# Altium footprint library LSM6DSMTR.PcbLib: 3 footprints
Each footprint in its own frame and in the unit in brackets; x right, y up, seen from the top. Pads: shape width x height; smd on the part's side, far side on the other; paste and mask are expansions set on the pad; w line width, h text height; cw(c..) or ccw(c..) is an arc to the next point about the centre after c.
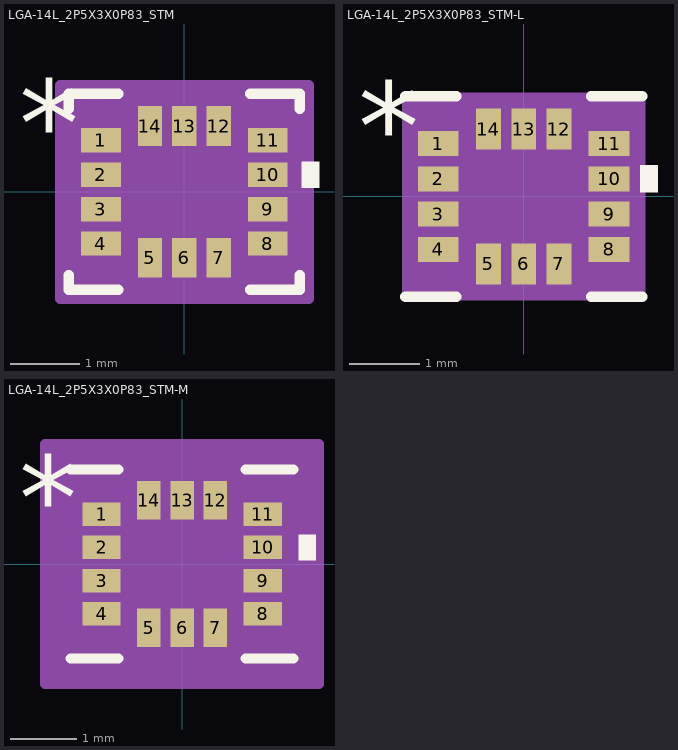
[diagram p0: the footprints below, top view; thin cyan lines are the x and y axes]

## LGA-14L_2P5X3X0P83_STM [mm]
pads (14):
  rect 0.577x0.352 smd paste+0 mask+0.102: 1(-1.21,0.75) 2(-1.21,0.25) 3(-1.21,-0.25) 4(-1.21,-0.75) 8(1.21,-0.75) 9(1.21,-0.25) 10(1.21,0.25) 11(1.21,0.75)
  rect 0.352x0.577 smd paste+0 mask+0.102: 5(-0.5,-0.956) 6(0,-0.956) 7(0.5,-0.956) 12(0.5,0.956) 13(0,0.956) 14(-0.5,0.956)
Top Overlay:
  region: 1.702,0.44 1.956,0.44 1.956,0.059 1.702,0.059
  lines w0.152: -1.676,-1.207 -1.676,-1.422 -0.957,-1.422 ; -1.676,1.207 -1.676,1.422 -0.957,1.422 ; 0.957,-1.422 1.676,-1.422 1.676,-1.207 ; 0.957,1.422 1.676,1.422 1.676,1.207
  text "*" at -2.4,0.365 h1.27
  text ".Designator" at -3.492,-0.635 h1.27
Mechanical 13:
  lines w0.025: -1.549,0.025 -0.279,1.295 ; -1.549,-1.295 1.549,-1.295 ; -1.549,-1.295 -1.549,1.295 ; -1.549,-1.295 -1.549,-1.295 ; -1.549,1.295 1.549,1.295 ; -1.549,1.295 -1.549,1.295 ; 1.549,-1.295 1.549,-1.295 ; 1.549,-1.295 1.549,1.295 ; 1.549,1.295 1.549,1.295 ; -1.549,-0.875 -1.549,-0.625 -1.448,-0.625 -1.448,-0.875 -1.549,-0.875 ; -1.549,-0.375 -1.549,-0.125 -1.448,-0.125 -1.448,-0.375 -1.549,-0.375 ; -1.549,0.125 -1.549,0.375 -1.448,0.375 -1.448,0.125 -1.549,0.125 ; -1.549,0.625 -1.549,0.875 -1.448,0.875 -1.448,0.625 -1.549,0.625 ; -0.625,-1.295 -0.375,-1.295 -0.375,-1.194 -0.625,-1.194 -0.625,-1.295 ; -0.625,1.194 -0.375,1.194 -0.375,1.295 -0.625,1.295 -0.625,1.194 ; -0.125,-1.295 0.125,-1.295 0.125,-1.194 -0.125,-1.194 -0.125,-1.295 ; -0.125,1.194 0.125,1.194 0.125,1.295 -0.125,1.295 -0.125,1.194 ; 0.375,-1.295 0.625,-1.295 0.625,-1.194 0.375,-1.194 0.375,-1.295 ; 0.375,1.194 0.625,1.194 0.625,1.295 0.375,1.295 0.375,1.194 ; 1.448,-0.875 1.549,-0.875 1.549,-0.625 1.448,-0.625 1.448,-0.875 ; 1.448,-0.375 1.549,-0.375 1.549,-0.125 1.448,-0.125 1.448,-0.375 ; 1.448,0.125 1.549,0.125 1.549,0.375 1.448,0.375 1.448,0.125 ; 1.448,0.625 1.549,0.625 1.549,0.875 1.448,0.875 1.448,0.625
  text ".Designator" at -3.492,-0.635 h1.27
  text "*" at -1.29,0.365 h1.27
Mechanical 15:
  region: -0.879,-1.549 -1.803,-1.549 -1.803,-1.129 -1.803,1.129 -1.803,1.549 -0.879,1.549 0.879,1.549 1.803,1.549 1.803,1.129 1.803,-1.129 1.803,-1.549 0.879,-1.549
  lines w0.152: -1.803,-1.129 -1.803,-1.549 -0.879,-1.549 ; -1.803,-1.129 -1.803,-1.129 ; -1.803,-1.129 -1.803,1.129 ; -1.803,1.129 -1.803,1.129 ; -1.803,1.129 -1.803,1.549 -0.879,1.549 ; -0.879,-1.549 0.879,-1.549 ; -0.879,-1.549 -0.879,-1.549 ; -0.879,1.549 -0.879,1.549 ; -0.879,1.549 0.879,1.549 ; 0.879,-1.549 1.803,-1.549 1.803,-1.129 ; 0.879,-1.549 0.879,-1.549 ; 0.879,1.549 0.879,1.549 ; 0.879,1.549 1.803,1.549 1.803,1.129 ; 1.803,-1.129 1.803,1.129 ; 1.803,-1.129 1.803,-1.129 ; 1.803,1.129 1.803,1.129
3D body "LGA-14L_2P5X3X0P83_STM.step": height 0.87, standoff 0, extent -1.549,-1.295 1.549,1.295

## LGA-14L_2P5X3X0P83_STM-L [mm]
pads (14):
  rect 0.577x0.352 smd paste+0 mask+0.102: 1(-1.21,0.75) 2(-1.21,0.25) 3(-1.21,-0.25) 4(-1.21,-0.75) 8(1.21,-0.75) 9(1.21,-0.25) 10(1.21,0.25) 11(1.21,0.75)
  rect 0.352x0.577 smd paste+0 mask+0.102: 5(-0.5,-0.956) 6(0,-0.956) 7(0.5,-0.956) 12(0.5,0.956) 13(0,0.956) 14(-0.5,0.956)
Top Overlay:
  region: 1.651,0.44 1.905,0.44 1.905,0.059 1.651,0.059
  lines w0.152: -1.676,-1.422 -0.957,-1.422 ; -1.676,1.422 -0.957,1.422 ; 0.957,-1.422 1.676,-1.422 ; 0.957,1.422 1.676,1.422
  text "*" at -2.349,0.365 h1.27
  text ".Designator" at -3.492,-0.635 h1.27
Mechanical 13:
  lines w0.025: -1.549,0.025 -0.279,1.295 ; -1.549,-1.295 1.549,-1.295 ; -1.549,-1.295 -1.549,1.295 ; -1.549,-1.295 -1.549,-1.295 ; -1.549,1.295 1.549,1.295 ; -1.549,1.295 -1.549,1.295 ; 1.549,-1.295 1.549,-1.295 ; 1.549,-1.295 1.549,1.295 ; 1.549,1.295 1.549,1.295 ; -1.549,-0.875 -1.549,-0.625 -1.448,-0.625 -1.448,-0.875 -1.549,-0.875 ; -1.549,-0.375 -1.549,-0.125 -1.448,-0.125 -1.448,-0.375 -1.549,-0.375 ; -1.549,0.125 -1.549,0.375 -1.448,0.375 -1.448,0.125 -1.549,0.125 ; -1.549,0.625 -1.549,0.875 -1.448,0.875 -1.448,0.625 -1.549,0.625 ; -0.625,-1.295 -0.375,-1.295 -0.375,-1.194 -0.625,-1.194 -0.625,-1.295 ; -0.625,1.194 -0.375,1.194 -0.375,1.295 -0.625,1.295 -0.625,1.194 ; -0.125,-1.295 0.125,-1.295 0.125,-1.194 -0.125,-1.194 -0.125,-1.295 ; -0.125,1.194 0.125,1.194 0.125,1.295 -0.125,1.295 -0.125,1.194 ; 0.375,-1.295 0.625,-1.295 0.625,-1.194 0.375,-1.194 0.375,-1.295 ; 0.375,1.194 0.625,1.194 0.625,1.295 0.375,1.295 0.375,1.194 ; 1.448,-0.875 1.549,-0.875 1.549,-0.625 1.448,-0.625 1.448,-0.875 ; 1.448,-0.375 1.549,-0.375 1.549,-0.125 1.448,-0.125 1.448,-0.375 ; 1.448,0.125 1.549,0.125 1.549,0.375 1.448,0.375 1.448,0.125 ; 1.448,0.625 1.549,0.625 1.549,0.875 1.448,0.875 1.448,0.625
  text ".Designator" at -3.492,-0.635 h1.27
  text "*" at -1.341,0.365 h1.27
Mechanical 15:
  region: -0.701,-1.397 -1.651,-1.397 -1.651,-0.951 -1.651,0.951 -1.651,1.397 -0.701,1.397 0.701,1.397 1.651,1.397 1.651,0.951 1.651,-0.951 1.651,-1.397 0.701,-1.397
  lines w0.152: -1.651,-0.951 -1.651,-1.397 -0.701,-1.397 ; -1.651,-0.951 -1.651,-0.951 ; -1.651,-0.951 -1.651,0.951 ; -1.651,0.951 -1.651,0.951 ; -1.651,0.951 -1.651,1.397 -0.701,1.397 ; -0.701,-1.397 0.701,-1.397 ; -0.701,-1.397 -0.701,-1.397 ; -0.701,1.397 -0.701,1.397 ; -0.701,1.397 0.701,1.397 ; 0.701,-1.397 1.651,-1.397 1.651,-0.951 ; 0.701,-1.397 0.701,-1.397 ; 0.701,1.397 0.701,1.397 ; 0.701,1.397 1.651,1.397 1.651,0.951 ; 1.651,-0.951 1.651,0.951 ; 1.651,-0.951 1.651,-0.951 ; 1.651,0.951 1.651,0.951
3D body "LGA-14L_2P5X3X0P83_STM.step": height 0.87, standoff 0, extent -1.549,-1.295 1.549,1.295

## LGA-14L_2P5X3X0P83_STM-M [mm]
pads (14):
  rect 0.577x0.352 smd paste+0 mask+0.102: 1(-1.21,0.75) 2(-1.21,0.25) 3(-1.21,-0.25) 4(-1.21,-0.75) 8(1.21,-0.75) 9(1.21,-0.25) 10(1.21,0.25) 11(1.21,0.75)
  rect 0.352x0.577 smd paste+0 mask+0.102: 5(-0.5,-0.956) 6(0,-0.956) 7(0.5,-0.956) 12(0.5,0.956) 13(0,0.956) 14(-0.5,0.956)
Top Overlay:
  region: 1.753,0.44 2.007,0.44 2.007,0.059 1.753,0.059
  lines w0.152: -1.676,-1.422 -0.957,-1.422 ; -1.676,1.422 -0.957,1.422 ; 0.957,-1.422 1.676,-1.422 ; 0.957,1.422 1.676,1.422
  text "*" at -2.451,0.365 h1.27
  text ".Designator" at -3.492,-0.635 h1.27
Mechanical 13:
  lines w0.025: -1.549,0.025 -0.279,1.295 ; -1.549,-1.295 1.549,-1.295 ; -1.549,-1.295 -1.549,1.295 ; -1.549,-1.295 -1.549,-1.295 ; -1.549,1.295 1.549,1.295 ; -1.549,1.295 -1.549,1.295 ; 1.549,-1.295 1.549,-1.295 ; 1.549,-1.295 1.549,1.295 ; 1.549,1.295 1.549,1.295 ; -1.549,-0.875 -1.549,-0.625 -1.448,-0.625 -1.448,-0.875 -1.549,-0.875 ; -1.549,-0.375 -1.549,-0.125 -1.448,-0.125 -1.448,-0.375 -1.549,-0.375 ; -1.549,0.125 -1.549,0.375 -1.448,0.375 -1.448,0.125 -1.549,0.125 ; -1.549,0.625 -1.549,0.875 -1.448,0.875 -1.448,0.625 -1.549,0.625 ; -0.625,-1.295 -0.375,-1.295 -0.375,-1.194 -0.625,-1.194 -0.625,-1.295 ; -0.625,1.194 -0.375,1.194 -0.375,1.295 -0.625,1.295 -0.625,1.194 ; -0.125,-1.295 0.125,-1.295 0.125,-1.194 -0.125,-1.194 -0.125,-1.295 ; -0.125,1.194 0.125,1.194 0.125,1.295 -0.125,1.295 -0.125,1.194 ; 0.375,-1.295 0.625,-1.295 0.625,-1.194 0.375,-1.194 0.375,-1.295 ; 0.375,1.194 0.625,1.194 0.625,1.295 0.375,1.295 0.375,1.194 ; 1.448,-0.875 1.549,-0.875 1.549,-0.625 1.448,-0.625 1.448,-0.875 ; 1.448,-0.375 1.549,-0.375 1.549,-0.125 1.448,-0.125 1.448,-0.375 ; 1.448,0.125 1.549,0.125 1.549,0.375 1.448,0.375 1.448,0.125 ; 1.448,0.625 1.549,0.625 1.549,0.875 1.448,0.875 1.448,0.625
  text ".Designator" at -3.492,-0.635 h1.27
  text "*" at -1.239,0.365 h1.27
Mechanical 15:
  region: -1.158,-1.803 -2.057,-1.803 -2.057,-1.408 -2.057,1.408 -2.057,1.803 -1.158,1.803 1.158,1.803 2.057,1.803 2.057,1.408 2.057,-1.408 2.057,-1.803 1.158,-1.803
  lines w0.152: -2.057,-1.408 -2.057,-1.803 -1.158,-1.803 ; -2.057,-1.408 -2.057,-1.408 ; -2.057,-1.408 -2.057,1.408 ; -2.057,1.408 -2.057,1.408 ; -2.057,1.408 -2.057,1.803 -1.158,1.803 ; -1.158,-1.803 1.158,-1.803 ; -1.158,-1.803 -1.158,-1.803 ; -1.158,1.803 -1.158,1.803 ; -1.158,1.803 1.158,1.803 ; 1.158,-1.803 2.057,-1.803 2.057,-1.408 ; 1.158,-1.803 1.158,-1.803 ; 1.158,1.803 1.158,1.803 ; 1.158,1.803 2.057,1.803 2.057,1.408 ; 2.057,-1.408 2.057,1.408 ; 2.057,-1.408 2.057,-1.408 ; 2.057,1.408 2.057,1.408
3D body "LGA-14L_2P5X3X0P83_STM.step": height 0.87, standoff 0, extent -1.549,-1.295 1.549,1.295